# EAGLE library part AMP-1241150-9 (library jt-con-tyco)
AMPMODU II 2.54mm SMT unshrouded 9-position
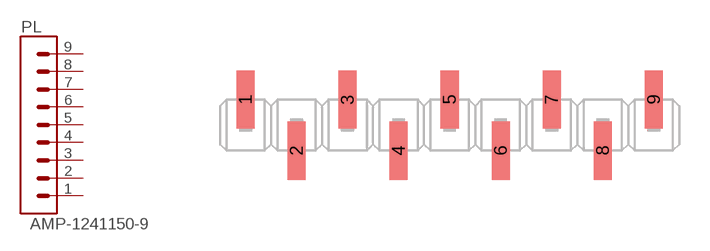
[diagram p3: symbol with the pads of AMP-1241150-9; footprint AMP-1241150-9]

Designator prefix PL

## AMP-1241150-9  [AMP-1241150-9]
1  1
2  2
3  3
4  4
5  5
6  6
7  7
8  8
9  9

## Footprint AMP-1241150-9 (pad centres in mm)
AMPMODU II 2.54mm SMT unshrouded 9-position
smd 0.9 x 2.9: 1 -10.16,1.27; 2 -7.62,-1.27; 3 -5.08,1.27; 4 -2.54,-1.27; 5 0,1.27; 6 2.54,-1.27; 7 5.08,1.27; 8 7.62,-1.27; 9 10.16,1.27